# Altium footprint library KOMMUT.PcbLib: 48 footprints (part 3 of 3)
Each footprint in its own frame and in the unit in brackets; x right, y up, seen from the top. Pads: shape width x height; smd on the part's side, far side on the other; paste and mask are expansions set on the pad; w line width, h text height; cw(c..) or ccw(c..) is an arc to the next point about the centre after c.
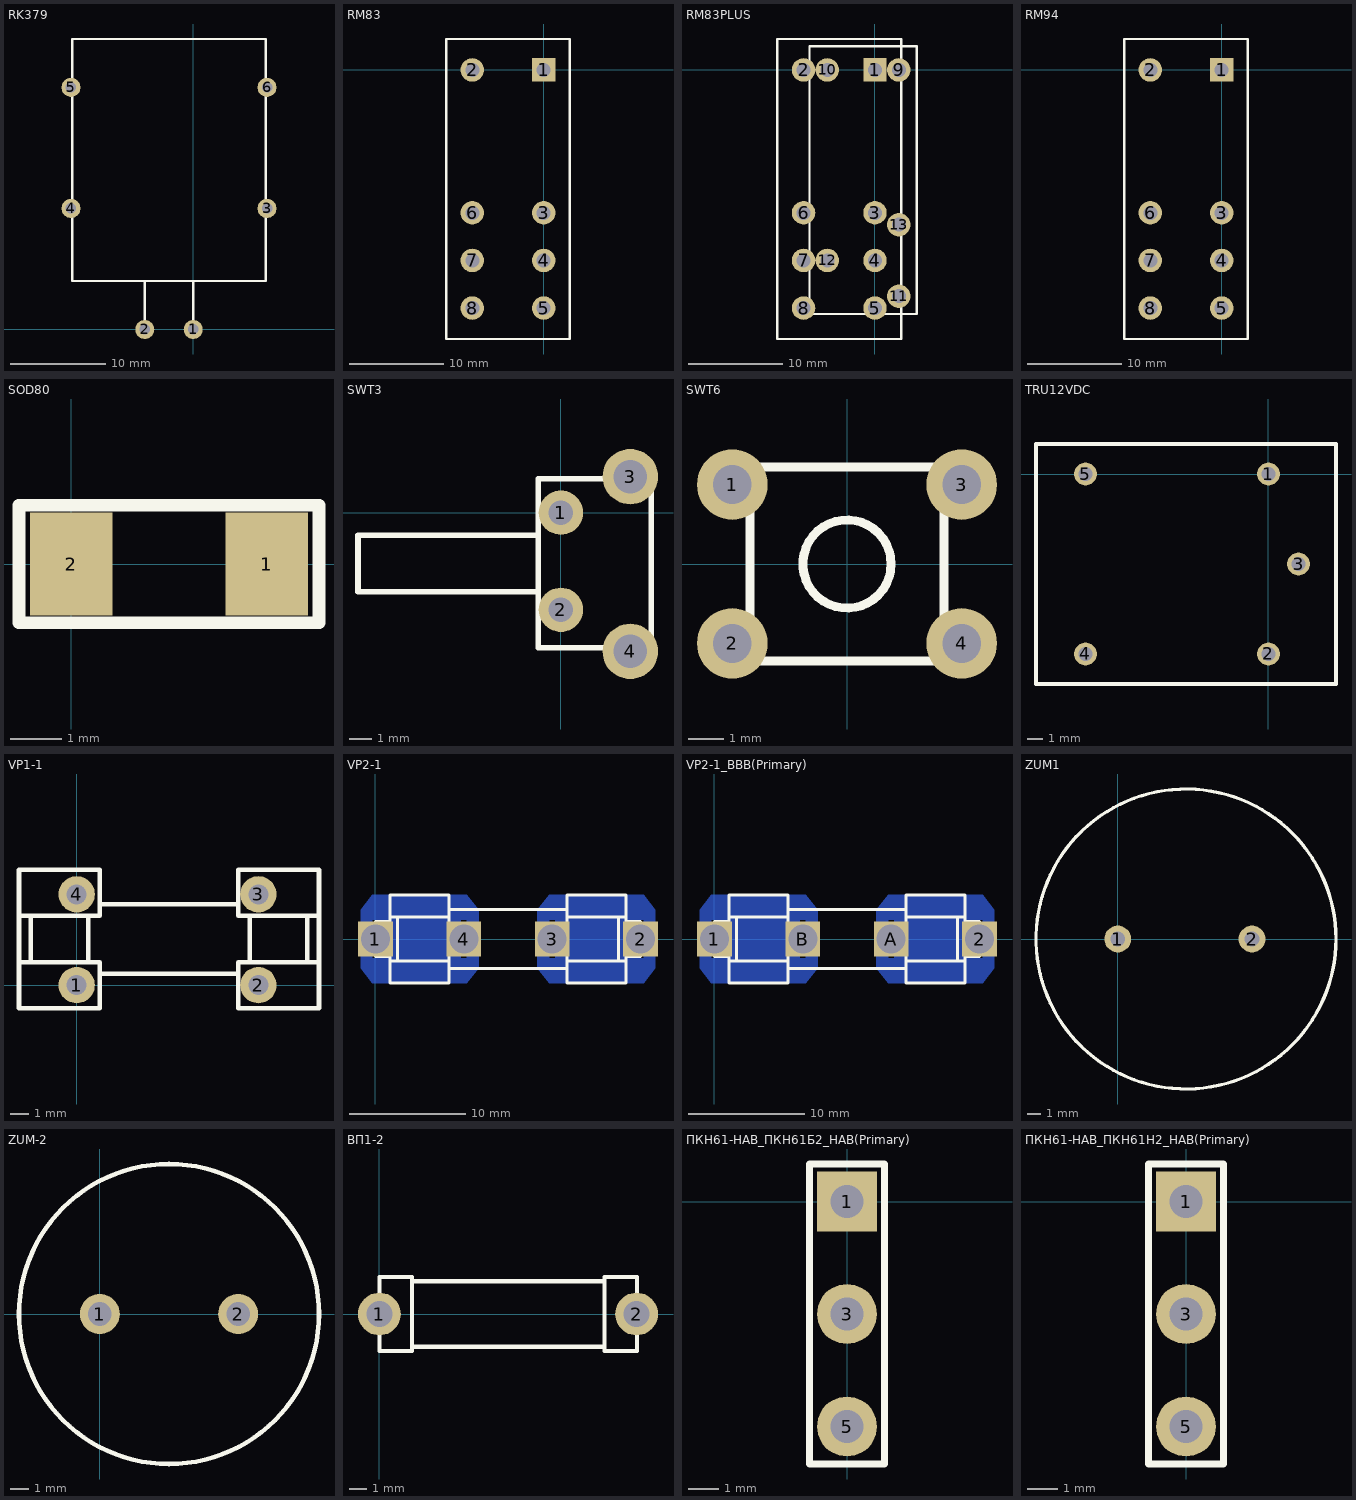
[diagram p2: the footprints below, top view; thin cyan lines are the x and y axes]

## RK379 [mm]
pads (6):
  round 2 hole 1.1: 1(0,0) 2(-5.08,0) 3(7.747,12.7) 4(-12.827,12.7) 5(-12.827,25.4) 6(7.747,25.4)
Top Overlay:
  lines w0.25: -5.08,0 -5.08,5.08 ; 0,0 0,5.08 ; -12.7,5.08 7.62,5.08 7.62,30.48 -12.7,30.48 -12.7,5.08

## RM83 [mm]
pads (8):
  rect 2.5x2.5 hole 1.5: 1(0,0)
  round 2.5 hole 1.5: 2(-7.62,0) 3(0,-15.24) 4(0,-20.32) 5(0,-25.4) 6(-7.62,-15.24) 7(-7.62,-20.32) 8(-7.62,-25.4)
Top Overlay:
  lines w0.25: -10.414,-28.702 2.794,-28.702 2.794,3.302 -10.414,3.302 -10.414,-28.702

## RM83PLUS [mm]
pads (13):
  rect 2.5x2.5 hole 1.5: 1(0,0)
  round 2.5 hole 1.5: 2(-7.62,0) 3(0,-15.24) 4(0,-20.32) 5(0,-25.4) 6(-7.62,-15.24) 7(-7.62,-20.32) 8(-7.62,-25.4) 9(2.54,0) 10(-5.08,0) 11(2.54,-24.13) 12(-5.08,-20.32) 13(2.54,-16.51)
Top Overlay:
  lines w0.254: -10.414,-28.702 2.794,-28.702 2.794,3.302 -10.414,3.302 -10.414,-28.702 ; -6.985,-26.035 4.445,-26.035 4.445,2.54 -6.985,2.54 -6.985,-26.035

## RM94 [mm]
pads (8):
  rect 2.5x2.5 hole 1.5: 1(0,0)
  round 2.5 hole 1.5: 2(-7.62,0) 3(0,-15.24) 4(0,-20.32) 5(0,-25.4) 6(-7.62,-15.24) 7(-7.62,-20.32) 8(-7.62,-25.4)
Top Overlay:
  lines w0.25: -10.414,-28.702 2.794,-28.702 2.794,3.302 -10.414,3.302 -10.414,-28.702

## SOD80 [mm]
pads (2):
  rect 1.6x2 smd: 1(3.81,0) 2(0,0)
Top Overlay:
  lines w0.25: -1.016,-1.143 4.826,-1.143 4.826,1.143 -1.016,1.143 -1.016,-1.143

## SWT3 [mm]
pads (4):
  round 2 hole 1.1: 1(0,0) 2(0,-4.375)
  round 2.5 hole 1.5: 3(3.125,1.625) 4(3.125,-6.25)
Top Overlay:
  lines w0.25: -1.016,-3.556 -9.144,-3.556 -9.144,-1.016 -1.016,-1.016 ; -1.016,-6.096 4.064,-6.096 4.064,1.524 0,1.524 -1.016,1.524 -1.016,-6.096

## SWT6 [mm]
pads (4):
  round 2 hole 1.1: 1(-3.25,2.25) 2(-3.25,-2.25) 3(3.25,2.25) 4(3.25,-2.25)
Top Overlay:
  circle w0.25: c0,0 r1.25
  lines w0.25: -2.75,-2.75 2.75,-2.75 2.75,2.75 -2.75,2.75 -2.75,-2.75

## TRU12VDC [mil]
pads (5):
  round 60 hole 38: 1(0,0) 2(0,-472.44) 3(78.74,-236.22) 4(-480.31,-472.44) 5(-480.31,0)
Top Overlay:
  lines w9.84: -610.24,-551.18 177.17,-551.18 177.17,78.74 -610.24,78.74 -610.24,-551.18

## VP1-1 [mm]
pads (4):
  round 2 hole 1.1: 1(0,0) 2(10,0) 3(10,5) 4(0,5)
Top Overlay:
  lines w0.25: -3.175,1.27 1.27,1.27 1.27,-1.27 -3.175,-1.27 -3.175,6.35 1.27,6.35 1.27,3.81 -3.175,3.81 ; -2.54,1.27 -2.54,3.81 ; 0.635,1.27 0.635,3.81 ; 1.27,0.635 8.89,0.635 ; 1.27,4.445 8.89,4.445 ; 9.525,1.27 9.525,3.81 ; 12.7,1.27 12.7,3.81 ; 13.335,1.27 8.89,1.27 8.89,0.635 ; 13.335,3.81 8.89,3.81 8.89,4.445 ; 8.89,0.635 8.89,-1.27 13.335,-1.27 13.335,6.35 8.89,6.35 8.89,4.445

## VP2-1 [mm]
pads (4):
  rect 3x3 hole 2.5: 1(0,0) 2(22.86,0) 3(15.24,0) 4(7.62,0)
Bottom Layer:
  region: 15.494,-3.81 22.606,-3.81 22.606,3.81 15.494,3.81
  region: 0.254,-3.81 7.366,-3.81 7.366,3.81 0.254,3.81
  region: 22.606,3.81 22.606,1.651 23.114,1.651 23.114,-1.651 22.606,-1.651 22.606,-3.81 23.114,-3.81 24.13,-2.54 24.13,2.54 23.114,3.81
  region: 15.494,-3.81 15.494,-1.651 14.986,-1.651 14.986,1.651 15.494,1.651 15.494,3.81 14.986,3.81 13.97,2.54 13.97,-2.54 14.986,-3.81
  region: 7.366,3.81 7.366,1.651 7.874,1.651 7.874,-1.651 7.366,-1.651 7.366,-3.81 7.874,-3.81 8.89,-2.54 8.89,2.54 7.874,3.81
  region: 0.254,-3.81 0.254,-1.651 -0.254,-1.651 -0.254,1.651 0.254,1.651 0.254,3.81 -0.254,3.81 -1.27,2.54 -1.27,-2.54 -0.254,-3.81
Top Overlay:
  lines w0.25: 1.27,-1.905 6.35,-1.905 ; 1.27,-1.524 0,-1.524 0,1.524 1.27,1.524 ; 1.27,1.905 6.35,1.905 ; 1.905,-1.905 1.905,1.905 ; 6.35,-2.54 16.51,-2.54 ; 6.35,2.54 16.51,2.54 ; 16.51,-1.905 21.59,-1.905 ; 16.51,1.905 21.59,1.905 ; 20.955,-1.905 20.955,1.905 ; 21.59,-1.524 22.86,-1.524 22.86,1.524 21.59,1.524 ; 1.27,-3.81 6.35,-3.81 6.35,3.81 1.27,3.81 1.27,-3.81 ; 16.51,-3.81 21.59,-3.81 21.59,3.81 16.51,3.81 16.51,-3.81

## VP2-1_ВВВ(Primary) [mm]
pads (4):
  rect 3x3 hole 2.5: 1(0,0) 2(22.86,0) A(15.24,0) B(7.62,0)
Bottom Layer:
  region: 15.494,-3.81 22.606,-3.81 22.606,3.81 15.494,3.81
  region: 0.254,-3.81 7.366,-3.81 7.366,3.81 0.254,3.81
  region: 22.606,3.81 22.606,1.651 23.114,1.651 23.114,-1.651 22.606,-1.651 22.606,-3.81 23.114,-3.81 24.13,-2.54 24.13,2.54 23.114,3.81
  region: 15.494,-3.81 15.494,-1.651 14.986,-1.651 14.986,1.651 15.494,1.651 15.494,3.81 14.986,3.81 13.97,2.54 13.97,-2.54 14.986,-3.81
  region: 7.366,3.81 7.366,1.651 7.874,1.651 7.874,-1.651 7.366,-1.651 7.366,-3.81 7.874,-3.81 8.89,-2.54 8.89,2.54 7.874,3.81
  region: 0.254,-3.81 0.254,-1.651 -0.254,-1.651 -0.254,1.651 0.254,1.651 0.254,3.81 -0.254,3.81 -1.27,2.54 -1.27,-2.54 -0.254,-3.81
Top Overlay:
  lines w0.25: 1.27,-1.905 6.35,-1.905 ; 1.27,-1.524 0,-1.524 0,1.524 1.27,1.524 ; 1.27,1.905 6.35,1.905 ; 1.905,-1.905 1.905,1.905 ; 6.35,-2.54 16.51,-2.54 ; 6.35,2.54 16.51,2.54 ; 16.51,-1.905 21.59,-1.905 ; 16.51,1.905 21.59,1.905 ; 20.955,-1.905 20.955,1.905 ; 21.59,-1.524 22.86,-1.524 22.86,1.524 21.59,1.524 ; 1.27,-3.81 6.35,-3.81 6.35,3.81 1.27,3.81 1.27,-3.81 ; 16.51,-3.81 21.59,-3.81 21.59,3.81 16.51,3.81 16.51,-3.81

## ZUM1 [mm]
pads (2):
  round 2 hole 1.1: 1(0,0) 2(10,0)
Top Overlay:
  circle w0.25: c5.08,0 r11.176

## ZUM-2 [mm]
pads (2):
  round 2.2 hole 1.3: 1(0,0) 2(7.62,0)
Top Overlay:
  circle w0.25: c3.81,0 r8.255

## ВП1-2 [mm]
pads (2):
  round 2.5 hole 1.5: 1(0,0) 2(15,0)
Top Overlay:
  lines w0.25: 1.905,-1.778 1.905,-2.159 0,-2.159 0,-1.905 0,1.905 0,2.032 0,2.159 1.905,2.159 1.905,1.905 ; 13.11,-1.91 1.905,-1.905 1.905,1.905 ; 13.12,1.91 1.905,1.905 ; 13.125,-2.159 15.03,-2.159 15.03,-1.905 15.03,1.905 15.03,2.159 13.125,2.159 13.125,1.905 13.125,-1.905 13.125,-2.159

## ПКН61-НАВ_ПКН61Б2_НАВ(Primary) [mm]
pads (3):
  rect 2x2 hole 1.1: 1(0,0)
  round 2 hole 1.1: 3(0,-3.75) 5(0,-7.5)
Top Overlay:
  lines w0.25: -1.25,-8.75 -1.25,1.25 1.25,1.25 1.25,-8.75 -1.25,-8.75

## ПКН61-НАВ_ПКН61Н2_НАВ(Primary) [mm]
pads (3):
  rect 2x2 hole 1.1: 1(0,0)
  round 2 hole 1.1: 3(0,-3.75) 5(0,-7.5)
Top Overlay:
  lines w0.25: -1.25,-8.75 -1.25,1.25 1.25,1.25 1.25,-8.75 -1.25,-8.75